# Altium schematic symbol library MCU.SchLib: 8 symbols
Pins are listed as number, name and electrical type; pins without a type are passive.

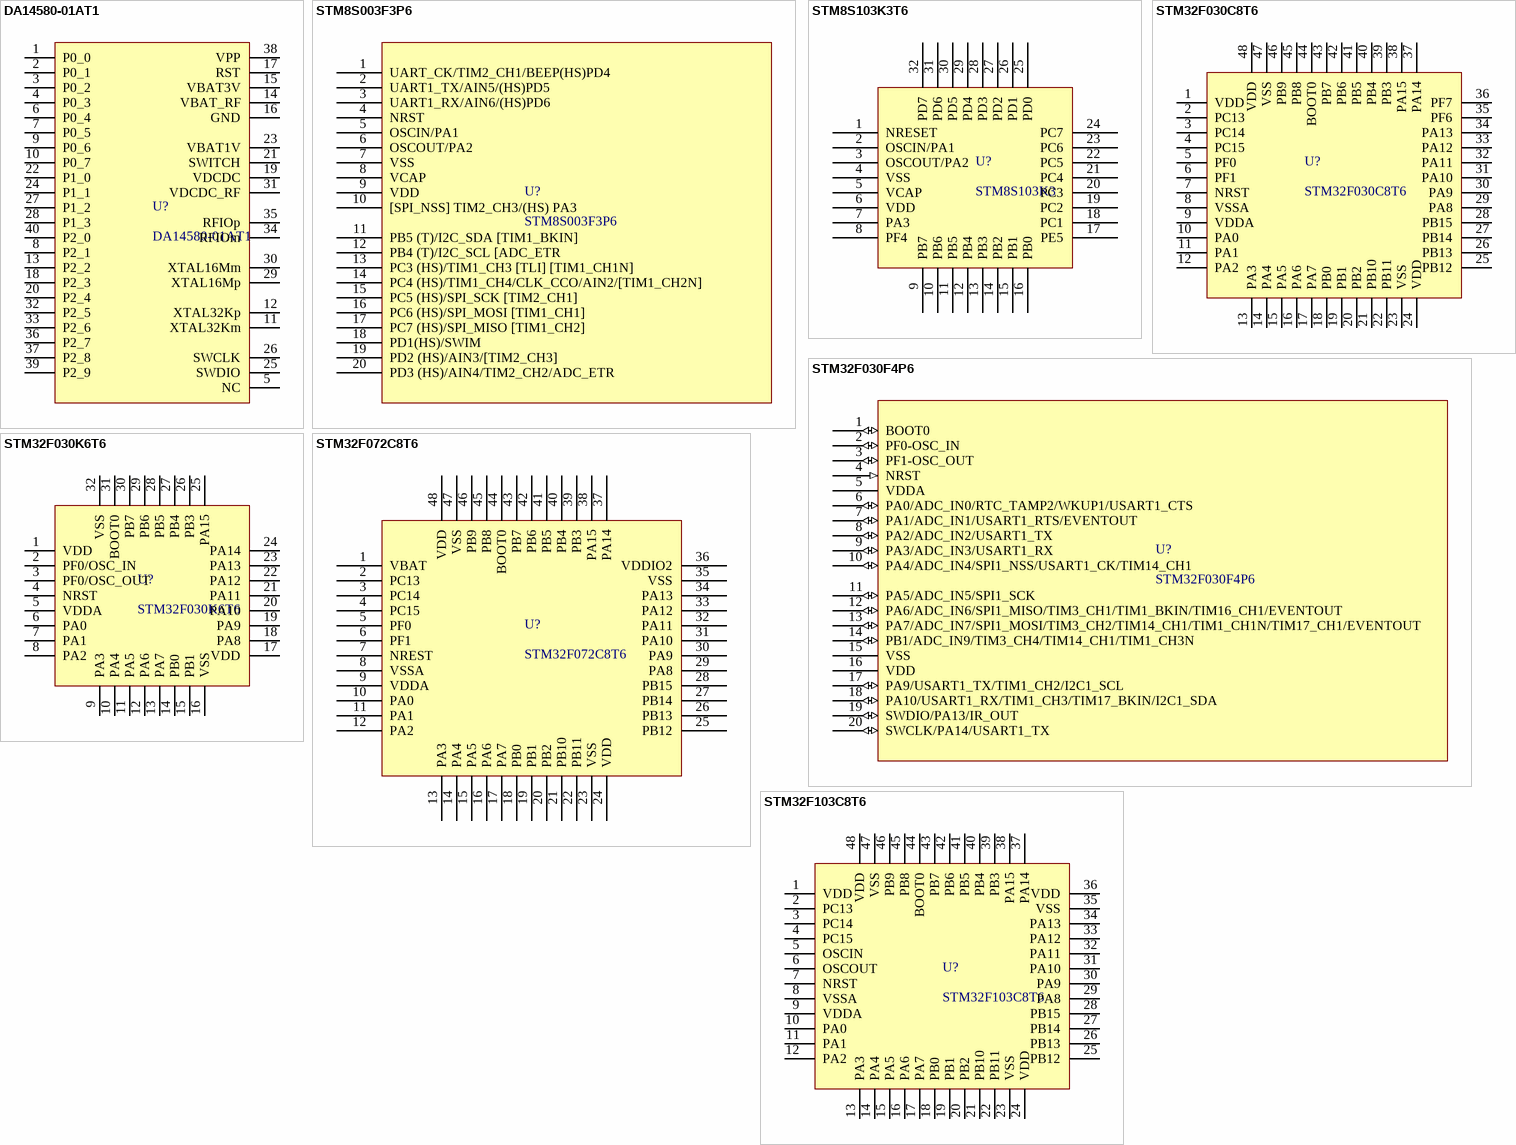
[diagram p0: symbols DA14580-01AT1 to STM32F103C8T6]

## DA14580-01AT1
designator U?
Attributes: QFN 40Pin; Purchase: http://item.taobao.com/item.htm?spm=a230r.1.14.60.X52rrY&id=43818350425&ns=1&abbucket=10#detail; Prices: 8.5
footprint QFN40P500X500X90_HS-41L (QFN, 40-Leads, Body 5.00x5.00mm, Pitch 0.40mm, Thermal Pad 3.70x3.70mm, IPC High Density)
pins: 1 P0_0, 2 P0_1, 3 P0_2, 4 P0_3, 5 NC, 6 P0_4, 7 P0_5, 8 P2_1, 9 P0_6, 10 P0_7, 11 XTAL32Km, 12 XTAL32Kp, 13 P2_2, 14 VBAT_RF, 15 VBAT3V, 16 GND, 17 RST, 18 P2_3, 19 VDCDC, 20 P2_4, 21 SWITCH, 22 P1_0, 23 VBAT1V, 24 P1_1, 25 SWDIO, 26 SWCLK, 27 P1_2, 28 P1_3, 29 XTAL16Mp, 30 XTAL16Mm, 31 VDCDC_RF, 32 P2_5, 33 P2_6, 34 RFIOm, 35 RFIOp, 36 P2_7, 37 P2_8, 38 VPP, 39 P2_9, 40 P2_0

## STM8S003F3P6
designator U?
Purchase: C18615; Attributes: *; Prices: 1.26
footprint STM8S003F3P6
pins: 1 UART_CK/TIM2_CH1/BEEP(HS)PD4, 2 UART1_TX/AIN5/(HS)PD5, 3 UART1_RX/AIN6/(HS)PD6, 4 NRST, 5 OSCIN/PA1, 6 OSCOUT/PA2, 7 VSS, 8 VCAP, 9 VDD, 10 [SPI_NSS] TIM2_CH3/(HS) PA3, 11 PB5 (T)/I2C_SDA [TIM1_BKIN], 12 PB4 (T)/I2C_SCL [ADC_ETR, 13 PC3 (HS)/TIM1_CH3 [TLI] [TIM1_CH1N], 14 PC4 (HS)/TIM1_CH4/CLK_CCO/AIN2/[TIM1_CH2N], 15 PC5 (HS)/SPI_SCK [TIM2_CH1], 16 PC6 (HS)/SPI_MOSI [TIM1_CH1], 17 PC7 (HS)/SPI_MISO [TIM1_CH2], 18 PD1(HS)/SWIM, 19 PD2 (HS)/AIN3/[TIM2_CH3], 20 PD3 (HS)/AIN4/TIM2_CH2/ADC_ETR

## STM8S103K3T6
designator U?, comment STM8S103K3
Purchase: C8309; Attributes: *; Prices: 2.30
footprint TQFP32 (Thin QFP, 32-Leads, Body 7x7mm, Pitch 0.8mm, IPC Low Density)
pins: 1 NRESET, 2 OSCIN/PA1, 3 OSCOUT/PA2, 4 VSS, 5 VCAP, 6 VDD, 7 PA3, 8 PF4, 9 PB7, 10 PB6, 11 PB5, 12 PB4, 13 PB3, 14 PB2, 15 PB1, 16 PB0, 17 PE5, 18 PC1, 19 PC2, 20 PC3, 21 PC4, 22 PC5, 23 PC6, 24 PC7, 25 PD0, 26 PD1, 27 PD2, 28 PD3, 29 PD4, 30 PD5, 31 PD6, 32 PD7

## STM32F030C8T6
designator U?
Purchase: C23922; Attributes: *; Prices: 4.34
footprint TSQFP50P900X900X160-48L (Footprint not found)
pins: 1 VDD, 2 PC13, 3 PC14, 4 PC15, 5 PF0, 6 PF1, 7 NRST, 8 VSSA, 9 VDDA, 10 PA0, 11 PA1, 12 PA2, 13 PA3, 14 PA4, 15 PA5, 16 PA6, 17 PA7, 18 PB0, 19 PB1, 20 PB2, 21 PB10, 22 PB11, 23 VSS, 24 VDD, 25 PB12, 26 PB13, 27 PB14, 28 PB15, 29 PA8, 30 PA9, 31 PA10, 32 PA11, 33 PA12, 34 PA13, 35 PF6, 36 PF7, 37 PA14, 38 PA15, 39 PB3, 40 PB4, 41 PB5, 42 PB6, 43 PB7, 44 BOOT0, 45 PB8, 46 PB9, 47 VSS, 48 VDD

## STM32F030F4P6
designator U?
Purchase: C32908; Attributes: *
footprint TSOP65P650X120-20L (TSOP, 20-Leads, Body 6.50x4.40mm, Pitch 0.65mm, IPC High Density)
pins: 1 BOOT0 (io), 2 PF0-OSC_IN (io), 3 PF1-OSC_OUT (io), 4 NRST (in), 5 VDDA (power), 6 PA0/ADC_IN0/RTC_TAMP2/WKUP1/USART1_CTS (io), 7 PA1/ADC_IN1/USART1_RTS/EVENTOUT (io), 8 PA2/ADC_IN2/USART1_TX (io), 9 PA3/ADC_IN3/USART1_RX (io), 10 PA4/ADC_IN4/SPI1_NSS/USART1_CK/TIM14_CH1 (io), 11 PA5/ADC_IN5/SPI1_SCK (io), 12 PA6/ADC_IN6/SPI1_MISO/TIM3_CH1/TIM1_BKIN/TIM16_CH1/EVENTOUT (io), 13 PA7/ADC_IN7/SPI1_MOSI/TIM3_CH2/TIM14_CH1/TIM1_CH1N/TIM17_CH1/EVENTOUT (io), 14 PB1/ADC_IN9/TIM3_CH4/TIM14_CH1/TIM1_CH3N (io), 15 VSS (power), 16 VDD (power), 17 PA9/USART1_TX/TIM1_CH2/I2C1_SCL (io), 18 PA10/USART1_RX/TIM1_CH3/TIM17_BKIN/I2C1_SDA (io), 19 SWDIO/PA13/IR_OUT (io), 20 SWCLK/PA14/USART1_TX (io)

## STM32F030K6T6
designator U?
Attributes: *; Purchase: http://detail.tmall.com/item.htm?spm=a230r.1.14.1.24lzkY&id=40442555384&ad_id=&am_id=&cm_id=140105335569ed55e27b&pm_id=
footprint TQFP32
pins: 1 VDD, 2 PF0/OSC_IN, 3 PF0/OSC_OUT, 4 NRST, 5 VDDA, 6 PA0, 7 PA1, 8 PA2, 9 PA3, 10 PA4, 11 PA5, 12 PA6, 13 PA7, 14 PB0, 15 PB1, 16 VSS, 17 VDD, 18 PA8, 19 PA9, 20 PA10, 21 PA11, 22 PA12, 23 PA13, 24 PA14, 25 PA15, 26 PB3, 27 PB4, 28 PB5, 29 PB6, 30 PB7, 31 BOOT0, 32 VSS

## STM32F072C8T6
designator U?
Attributes: *; Purchase: http://detail.tmall.com/item.htm?spm=a1z0d.6639537.1997196601.55.bptW0I&id=40443935890
footprint TSQFP50P900X900X160-48L (TSQFP, 48-Leads, Body 7.00x7.00mm, Pitch 0.50mm, IPC High Density)
pins: 1 VBAT, 2 PC13, 3 PC14, 4 PC15, 5 PF0, 6 PF1, 7 NREST, 8 VSSA, 9 VDDA, 10 PA0, 11 PA1, 12 PA2, 13 PA3, 14 PA4, 15 PA5, 16 PA6, 17 PA7, 18 PB0, 19 PB1, 20 PB2, 21 PB10, 22 PB11, 23 VSS, 24 VDD, 25 PB12, 26 PB13, 27 PB14, 28 PB15, 29 PA8, 30 PA9, 31 PA10, 32 PA11, 33 PA12, 34 PA13, 35 VSS, 36 VDDIO2, 37 PA14, 38 PA15, 39 PB3, 40 PB4, 41 PB5, 42 PB6, 43 PB7, 44 BOOT0, 45 PB8, 46 PB9, 47 VSS, 48 VDD

## STM32F103C8T6
designator U?
Purchase: C8734; Attributes: *; Prices: 11.32/9.02/8.57/8.11
footprint TSQFP50P900X900X160-48L (TSQFP, 48-Leads, Body 7.00x7.00mm, Pitch 0.50mm, IPC High Density)
pins: 1 VDD, 2 PC13, 3 PC14, 4 PC15, 5 OSCIN, 6 OSCOUT, 7 NRST, 8 VSSA, 9 VDDA, 10 PA0, 11 PA1, 12 PA2, 13 PA3, 14 PA4, 15 PA5, 16 PA6, 17 PA7, 18 PB0, 19 PB1, 20 PB2, 21 PB10, 22 PB11, 23 VSS, 24 VDD, 25 PB12, 26 PB13, 27 PB14, 28 PB15, 29 PA8, 30 PA9, 31 PA10, 32 PA11, 33 PA12, 34 PA13, 35 VSS, 36 VDD, 37 PA14, 38 PA15, 39 PB3, 40 PB4, 41 PB5, 42 PB6, 43 PB7, 44 BOOT0, 45 PB8, 46 PB9, 47 VSS, 48 VDD